# Altium schematic symbol library test_point.SchLib: 1 symbol
Pins are listed as number, name and electrical type; pins without a type are passive.

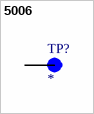
[diagram p0: symbol 5006]

## 5006
designator TP?
Test Point Compact THM PC .350 L .125 OD Heat Resistant Nylon 46 Black | Keystone Electronics 5006; MF: Keystone Electronics Corp.; MP: 5006; SnapEDA_Link: https://www.snapeda.com/parts/5006/Keystone/view-part/?ref=snap; Package: NON STANDARD-1 Keystone; Value: *; Check_prices: https://www.snapeda.com/parts/5006/Keystone/view-part/?ref=eda
footprint KEYSTONE_5006
pins: TP